# Altium schematic symbol library 5360.SchLib: 1 symbol
Pins are listed as number, name and electrical type; pins without a type are passive.

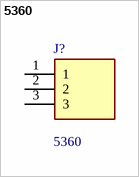
[diagram p0: symbol 5360]

## 5360
designator J?
Adafruit Accessories DIY Magnetic Connector - Right Angle Three Contact Pins; Geometry.Height: 4.1mm; Mouser Part Number: 485-5360; Mouser Price/Stock: https://www.mouser.co.uk/ProductDetail/Adafruit/5360?qs=MyNHzdoqoQJC81080TpnoQ%3D%3D; Manufacturer_Name: Adafruit; Manufacturer_Part_Number: 5360; Datasheet Link: https://cdn-shop.adafruit.com/product-files/5360/5360_C17002_______-1.pdf
footprint 5360
pins: 1, 2, 3